# EAGLE library part 691312510014 (library Wurth_Terminal_Blocks_Connectors_rev15d)
WR-TBL Serie 312 - 5.08 mm Open Horizontal PCB Header , 14 Pins=>Code : Con_TBL_Pluggable_5.08_PCB_THT_Simple_H_691312510014 <http://katalog.we-online.de/media/images/eican/Con_TBL_Pluggable_5.08_PCB_THT_Simple_H_6913125100xx_pf2.jpg> Details see: http://katalog.we-online.de/en/em/691_312_510_0xx Created 2014-06-25, Karrer Zheng 2014 (C) Würth Elektronik
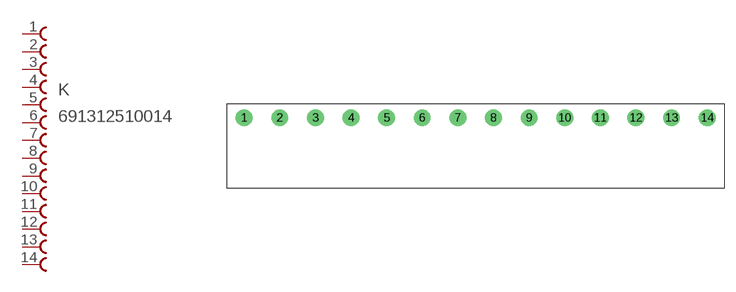
[diagram p139: symbol with the pads of 691312510014; footprint 691312510014]

Designator prefix K

## 691312510014  [691312510014]
1  1  pas
2  2  pas
3  3  pas
4  4  pas
5  5  pas
6  6  pas
7  7  pas
8  8  pas
9  9  pas
10  10  pas
11  11  pas
12  12  pas
13  13  pas
14  14  pas

## Footprint 691312510014 (pad centres in mm)
WR-TBL Serie 312 - 5.08 mm Open Horizontal PCB Header , 14 Pins
drill 1.6: 1 -30.48,0; 2 -25.4,0; 3 -20.32,0; 4 -15.24,0; 5 -10.16,0; 6 -5.08,0; 7 0,0; 8 5.08,0; 9 10.16,0; 10 15.24,0; 11 20.32,0; 12 25.4,0; 13 30.48,0; 14 35.56,0